# Altium integrated library BLACKPEARLROBOT.IntLib: 16 symbols
Pins are listed as number, name and electrical type; pins without a type are passive.

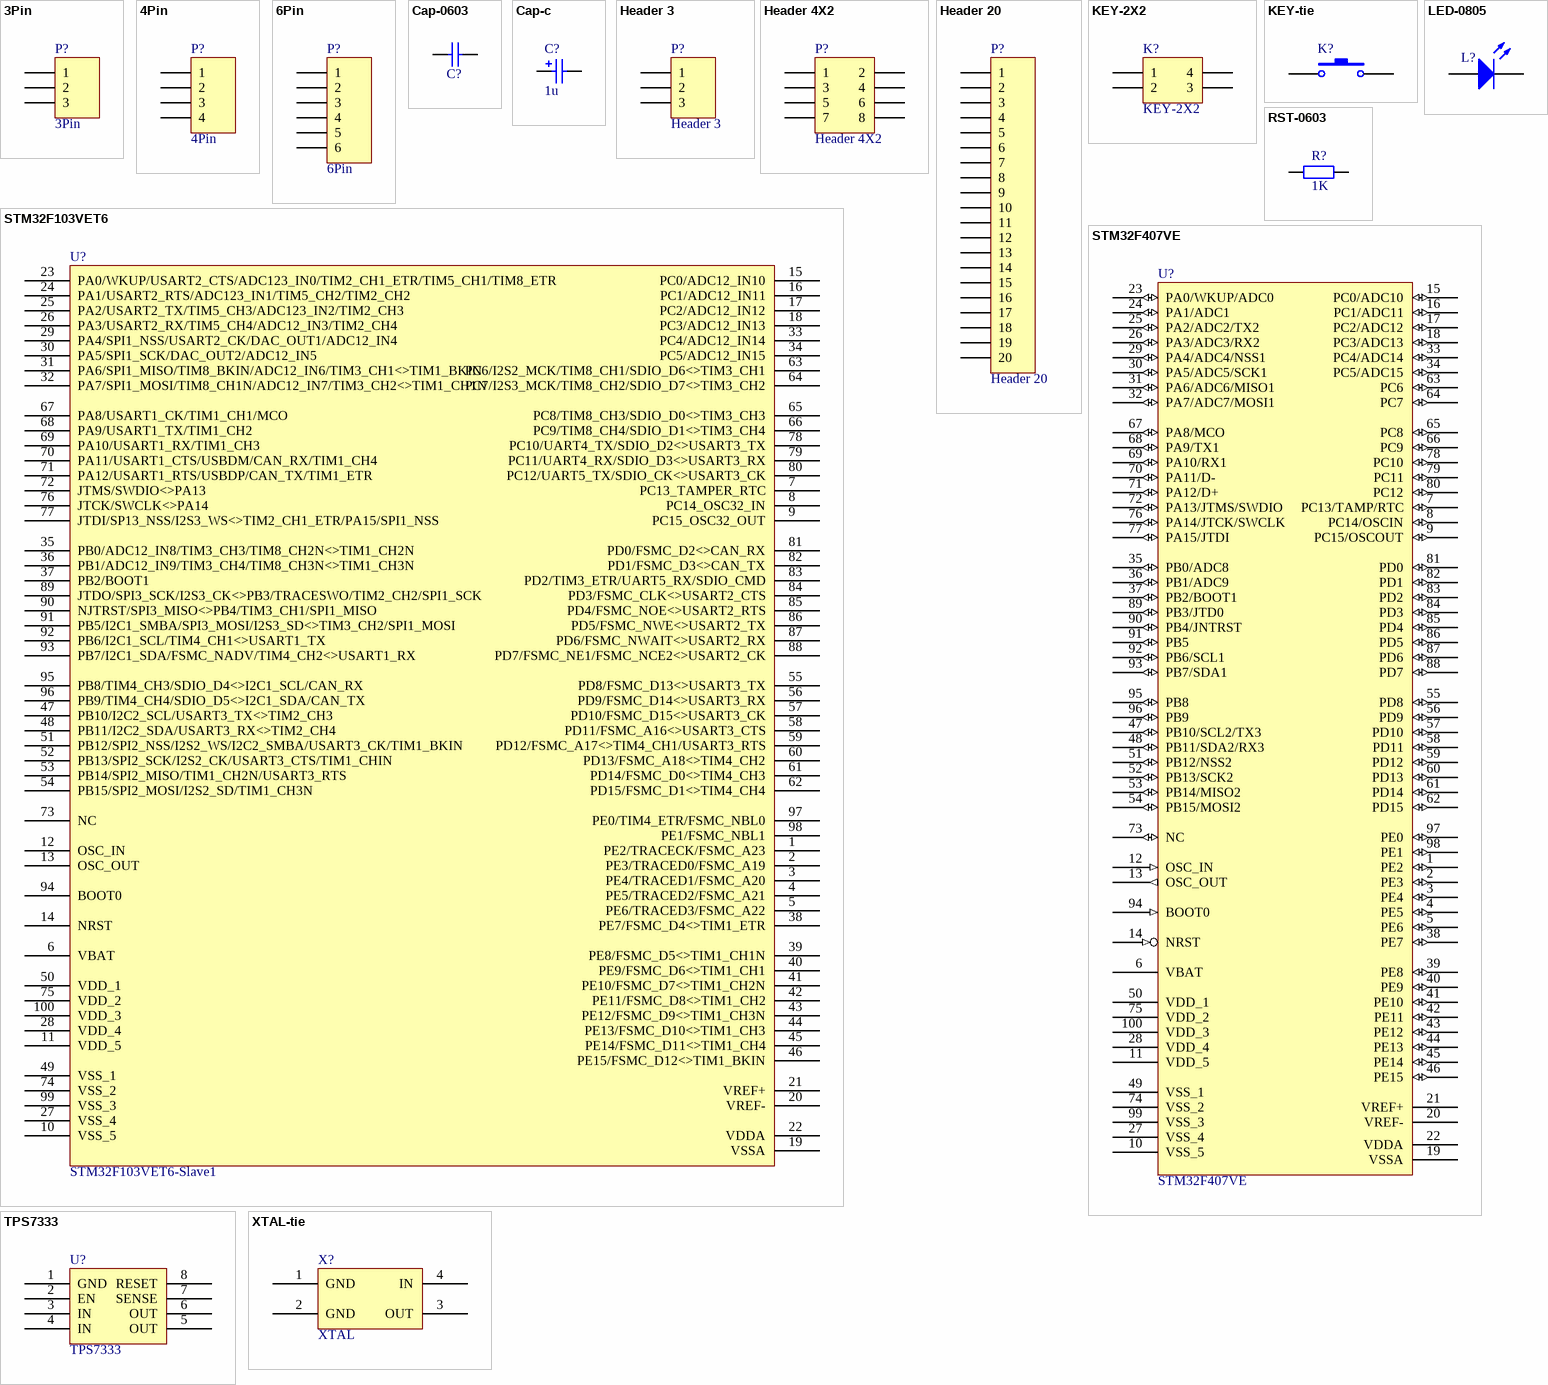
[diagram p0: symbols 3Pin to XTAL-tie]

## 3Pin
designator P?
footprint 3Pin
pins: 1, 2, 3

## 4Pin
designator P?
footprint 4Pin
pins: 1, 2, 3, 4

## 6Pin
designator P?
footprint 6Pin
pins: 1, 2, 3, 4, 5, 6

## Cap-0603
designator C?, comment 0.1u  (value not drawn)
footprint Cap-0603
pins: 1, 2

## Cap-c
designator C?, comment 1u
footprint SS34
pins: 1, 2

## Header 3
designator P?
Header, 3-Pin; LatestRevisionDate: 17-Jul-2002; LatestRevisionNote: Re-released for DXP Platform.; Publisher: Altium Limited
footprint HDR1X3 (Connector; Header; 3 Position)
signal-integrity model Connector
footprint HX2.54-3
footprint HX3.96-3
footprint HX5.08-3L
pins: 1, 2, 3

## Header 4X2
designator P?
Header, 4-Pin, Dual row; LatestRevisionDate: 17-Jul-2002; LatestRevisionNote: Re-released for DXP Platform.; Publisher: Altium Limited
footprint HDR2X4 (Connector; Header; 4x2 Position)
signal-integrity model Connector
pins: 1, 2, 3, 4, 5, 6, 7, 8

## Header 20
designator P?
Header, 20-Pin; LatestRevisionDate: 17-Jul-2002; LatestRevisionNote: Re-released for DXP Platform.; Publisher: Altium Limited
footprint HDR1X20 (Connector; Header; 20 Position)
signal-integrity model Connector
pins: 1, 2, 3, 4, 5, 6, 7, 8, 9, 10, 11, 12, 13, 14, 15, 16, 17, 18, 19, 20

## KEY-2X2
designator K?
footprint KEY-2X2
pins: 1, 2, 3, 4

## KEY-tie
designator K?, comment KEY  (value not drawn)
footprint KEY-tie
pins: 1, 2

## LED-0805
designator L?  (value not drawn)
footprint LED-0805
pins: 1 A, 2 K

## RST-0603
designator R?, comment 1K
footprint RES-0603
pins: 1, 2

## STM32F103VET6
designator U?, comment STM32F103VET6-Slave1
footprint STM32F103VET6
pins: 1 PE2/TRACECK/FSMC_A23, 2 PE3/TRACED0/FSMC_A19, 3 PE4/TRACED1/FSMC_A20, 4 PE5/TRACED2/FSMC_A21, 5 PE6/TRACED3/FSMC_A22, 6 VBAT, 7 PC13_TAMPER_RTC, 8 PC14_OSC32_IN, 9 PC15_OSC32_OUT, 10 VSS_5, 11 VDD_5, 12 OSC_IN, 13 OSC_OUT, 14 NRST, 15 PC0/ADC12_IN10, 16 PC1/ADC12_IN11, 17 PC2/ADC12_IN12, 18 PC3/ADC12_IN13, 19 VSSA, 20 VREF-, 21 VREF+, 22 VDDA, 23 PA0/WKUP/USART2_CTS/ADC123_IN0/TIM2_CH1_ETR/TIM5_CH1/TIM8_ETR, 24 PA1/USART2_RTS/ADC123_IN1/TIM5_CH2/TIM2_CH2, 25 PA2/USART2_TX/TIM5_CH3/ADC123_IN2/TIM2_CH3, 26 PA3/USART2_RX/TIM5_CH4/ADC12_IN3/TIM2_CH4, 27 VSS_4, 28 VDD_4, 29 PA4/SPI1_NSS/USART2_CK/DAC_OUT1/ADC12_IN4, 30 PA5/SPI1_SCK/DAC_OUT2/ADC12_IN5, 31 PA6/SPI1_MISO/TIM8_BKIN/ADC12_IN6/TIM3_CH1<>TIM1_BKIN, 32 PA7/SPI1_MOSI/TIM8_CH1N/ADC12_IN7/TIM3_CH2<>TIM1_CH1N, 33 PC4/ADC12_IN14, 34 PC5/ADC12_IN15, 35 PB0/ADC12_IN8/TIM3_CH3/TIM8_CH2N<>TIM1_CH2N, 36 PB1/ADC12_IN9/TIM3_CH4/TIM8_CH3N<>TIM1_CH3N, 37 PB2/BOOT1, 38 PE7/FSMC_D4<>TIM1_ETR, 39 PE8/FSMC_D5<>TIM1_CH1N, 40 PE9/FSMC_D6<>TIM1_CH1, 41 PE10/FSMC_D7<>TIM1_CH2N, 42 PE11/FSMC_D8<>TIM1_CH2, 43 PE12/FSMC_D9<>TIM1_CH3N, 44 PE13/FSMC_D10<>TIM1_CH3, 45 PE14/FSMC_D11<>TIM1_CH4, 46 PE15/FSMC_D12<>TIM1_BKIN, 47 PB10/I2C2_SCL/USART3_TX<>TIM2_CH3, 48 PB11/I2C2_SDA/USART3_RX<>TIM2_CH4, 49 VSS_1, 50 VDD_1, 51 PB12/SPI2_NSS/I2S2_WS/I2C2_SMBA/USART3_CK/TIM1_BKIN, 52 PB13/SPI2_SCK/I2S2_CK/USART3_CTS/TIM1_CHIN, 53 PB14/SPI2_MISO/TIM1_CH2N/USART3_RTS, 54 PB15/SPI2_MOSI/I2S2_SD/TIM1_CH3N, 55 PD8/FSMC_D13<>USART3_TX, 56 PD9/FSMC_D14<>USART3_RX, 57 PD10/FSMC_D15<>USART3_CK, 58 PD11/FSMC_A16<>USART3_CTS, 59 PD12/FSMC_A17<>TIM4_CH1/USART3_RTS, 60 PD13/FSMC_A18<>TIM4_CH2, 61 PD14/FSMC_D0<>TIM4_CH3, 62 PD15/FSMC_D1<>TIM4_CH4, 63 PC6/I2S2_MCK/TIM8_CH1/SDIO_D6<>TIM3_CH1, 64 PC7/I2S3_MCK/TIM8_CH2/SDIO_D7<>TIM3_CH2, 65 PC8/TIM8_CH3/SDIO_D0<>TIM3_CH3, 66 PC9/TIM8_CH4/SDIO_D1<>TIM3_CH4, 67 PA8/USART1_CK/TIM1_CH1/MCO, 68 PA9/USART1_TX/TIM1_CH2, 69 PA10/USART1_RX/TIM1_CH3, 70 PA11/USART1_CTS/USBDM/CAN_RX/TIM1_CH4, 71 PA12/USART1_RTS/USBDP/CAN_TX/TIM1_ETR, 72 JTMS/SWDIO<>PA13, 73 NC, 74 VSS_2, 75 VDD_2, 76 JTCK/SWCLK<>PA14, 77 JTDI/SP13_NSS/I2S3_WS<>TIM2_CH1_ETR/PA15/SPI1_NSS, 78 PC10/UART4_TX/SDIO_D2<>USART3_TX, 79 PC11/UART4_RX/SDIO_D3<>USART3_RX, 80 PC12/UART5_TX/SDIO_CK<>USART3_CK, 81 PD0/FSMC_D2<>CAN_RX, 82 PD1/FSMC_D3<>CAN_TX, 83 PD2/TIM3_ETR/UART5_RX/SDIO_CMD, 84 PD3/FSMC_CLK<>USART2_CTS, 85 PD4/FSMC_NOE<>USART2_RTS, 86 PD5/FSMC_NWE<>USART2_TX, 87 PD6/FSMC_NWAIT<>USART2_RX, 88 PD7/FSMC_NE1/FSMC_NCE2<>USART2_CK, 89 JTDO/SPI3_SCK/I2S3_CK<>PB3/TRACESWO/TIM2_CH2/SPI1_SCK, 90 NJTRST/SPI3_MISO<>PB4/TIM3_CH1/SPI1_MISO, 91 PB5/I2C1_SMBA/SPI3_MOSI/I2S3_SD<>TIM3_CH2/SPI1_MOSI, 92 PB6/I2C1_SCL/TIM4_CH1<>USART1_TX, 93 PB7/I2C1_SDA/FSMC_NADV/TIM4_CH2<>USART1_RX, 94 BOOT0, 95 PB8/TIM4_CH3/SDIO_D4<>I2C1_SCL/CAN_RX, 96 PB9/TIM4_CH4/SDIO_D5<>I2C1_SDA/CAN_TX, 97 PE0/TIM4_ETR/FSMC_NBL0, 98 PE1/FSMC_NBL1, 99 VSS_3, 100 VDD_3

## STM32F407VE
designator U?
footprint STM32F103VET6
pins: 1 PE2 (io), 2 PE3 (io), 3 PE4 (io), 4 PE5 (io), 5 PE6 (io), 6 VBAT (power), 7 PC13/TAMP/RTC (io), 8 PC14/OSCIN (io), 9 PC15/OSCOUT (io), 10 VSS_5 (power), 11 VDD_5 (power), 12 OSC_IN (in), 13 OSC_OUT (out), 14 NRST (in), 15 PC0/ADC10 (io), 16 PC1/ADC11 (io), 17 PC2/ADC12 (io), 18 PC3/ADC13 (io), 19 VSSA (power), 20 VREF- (power), 21 VREF+ (power), 22 VDDA (power), 23 PA0/WKUP/ADC0 (io), 24 PA1/ADC1 (io), 25 PA2/ADC2/TX2 (io), 26 PA3/ADC3/RX2 (io), 27 VSS_4 (power), 28 VDD_4 (power), 29 PA4/ADC4/NSS1 (io), 30 PA5/ADC5/SCK1 (io), 31 PA6/ADC6/MISO1 (io), 32 PA7/ADC7/MOSI1 (io), 33 PC4/ADC14 (io), 34 PC5/ADC15 (io), 35 PB0/ADC8 (io), 36 PB1/ADC9 (io), 37 PB2/BOOT1 (io), 38 PE7 (io), 39 PE8 (io), 40 PE9 (io), 41 PE10 (io), 42 PE11 (io), 43 PE12 (io), 44 PE13 (io), 45 PE14 (io), 46 PE15 (io), 47 PB10/SCL2/TX3 (io), 48 PB11/SDA2/RX3 (io), 49 VSS_1 (power), 50 VDD_1 (power), 51 PB12/NSS2 (io), 52 PB13/SCK2 (io), 53 PB14/MISO2 (io), 54 PB15/MOSI2 (io), 55 PD8 (io), 56 PD9 (io), 57 PD10 (io), 58 PD11 (io), 59 PD12 (io), 60 PD13 (io), 61 PD14 (io), 62 PD15 (io), 63 PC6 (io), 64 PC7 (io), 65 PC8 (io), 66 PC9 (io), 67 PA8/MCO (io), 68 PA9/TX1 (io), 69 PA10/RX1 (io), 70 PA11/D- (io), 71 PA12/D+ (io), 72 PA13/JTMS/SWDIO (io), 73 NC (io), 74 VSS_2 (power), 75 VDD_2 (power), 76 PA14/JTCK/SWCLK (io), 77 PA15/JTDI (io), 78 PC10 (io), 79 PC11 (io), 80 PC12 (io), 81 PD0 (io), 82 PD1 (io), 83 PD2 (io), 84 PD3 (io), 85 PD4 (io), 86 PD5 (io), 87 PD6 (io), 88 PD7 (io), 89 PB3/JTD0 (io), 90 PB4/JNTRST (io), 91 PB5 (io), 92 PB6/SCL1 (io), 93 PB7/SDA1 (io), 94 BOOT0 (in), 95 PB8 (io), 96 PB9 (io), 97 PE0 (io), 98 PE1 (io), 99 VSS_3 (power), 100 VDD_3 (power)

## TPS7333
designator U?
footprint SOP_8
pins: 1 GND, 2 EN, 3 IN, 4 IN, 5 OUT, 6 OUT, 7 SENSE, 8 RESET

## XTAL-tie
designator X?, comment XTAL
footprint XTAL-tie
pins: 1 GND, 2 GND, 3 OUT, 4 IN